# EAGLE library part RELAIS-BISTABIL (library coax)
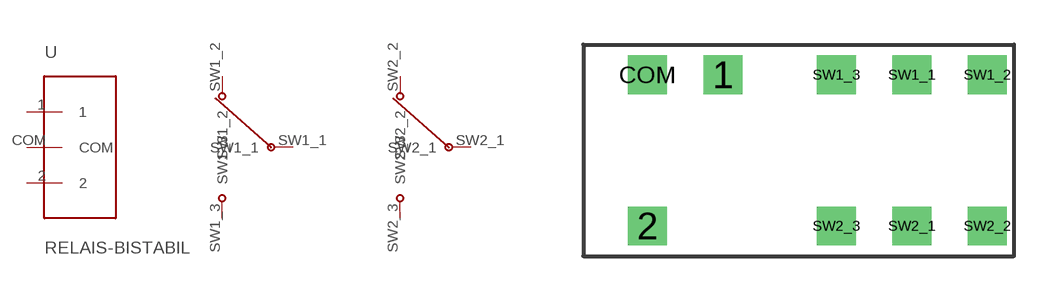
[diagram p0: symbol with the pads of DUMMY; footprint DUMMY]

Designator prefix -

## RELAIS-BISTABIL  [DUMMY]
1  1
2  2
COM  COM
SW1_1  SW1_1
SW1_2  SW1_2
SW1_3  SW1_3
SW2_1  SW2_1
SW2_2  SW2_2
SW2_3  SW2_3

## Footprint DUMMY (pad centres in mm)
drill 0.8 square: 1 -2.54,2.54; 2 -5.08,-2.54; COM -5.08,2.54; SW1_1 3.81,2.54; SW1_2 6.35,2.54; SW1_3 1.27,2.54; SW2_1 3.81,-2.54; SW2_2 6.35,-2.54; SW2_3 1.27,-2.54